# Altium footprint library MedEnginePCBLib.PcbLib: 54 footprints (part 2 of 4)
Each footprint in its own frame and in the unit in brackets; x right, y up, seen from the top. Pads: shape width x height; smd on the part's side, far side on the other; paste and mask are expansions set on the pad; w line width, h text height; cw(c..) or ccw(c..) is an arc to the next point about the centre after c.
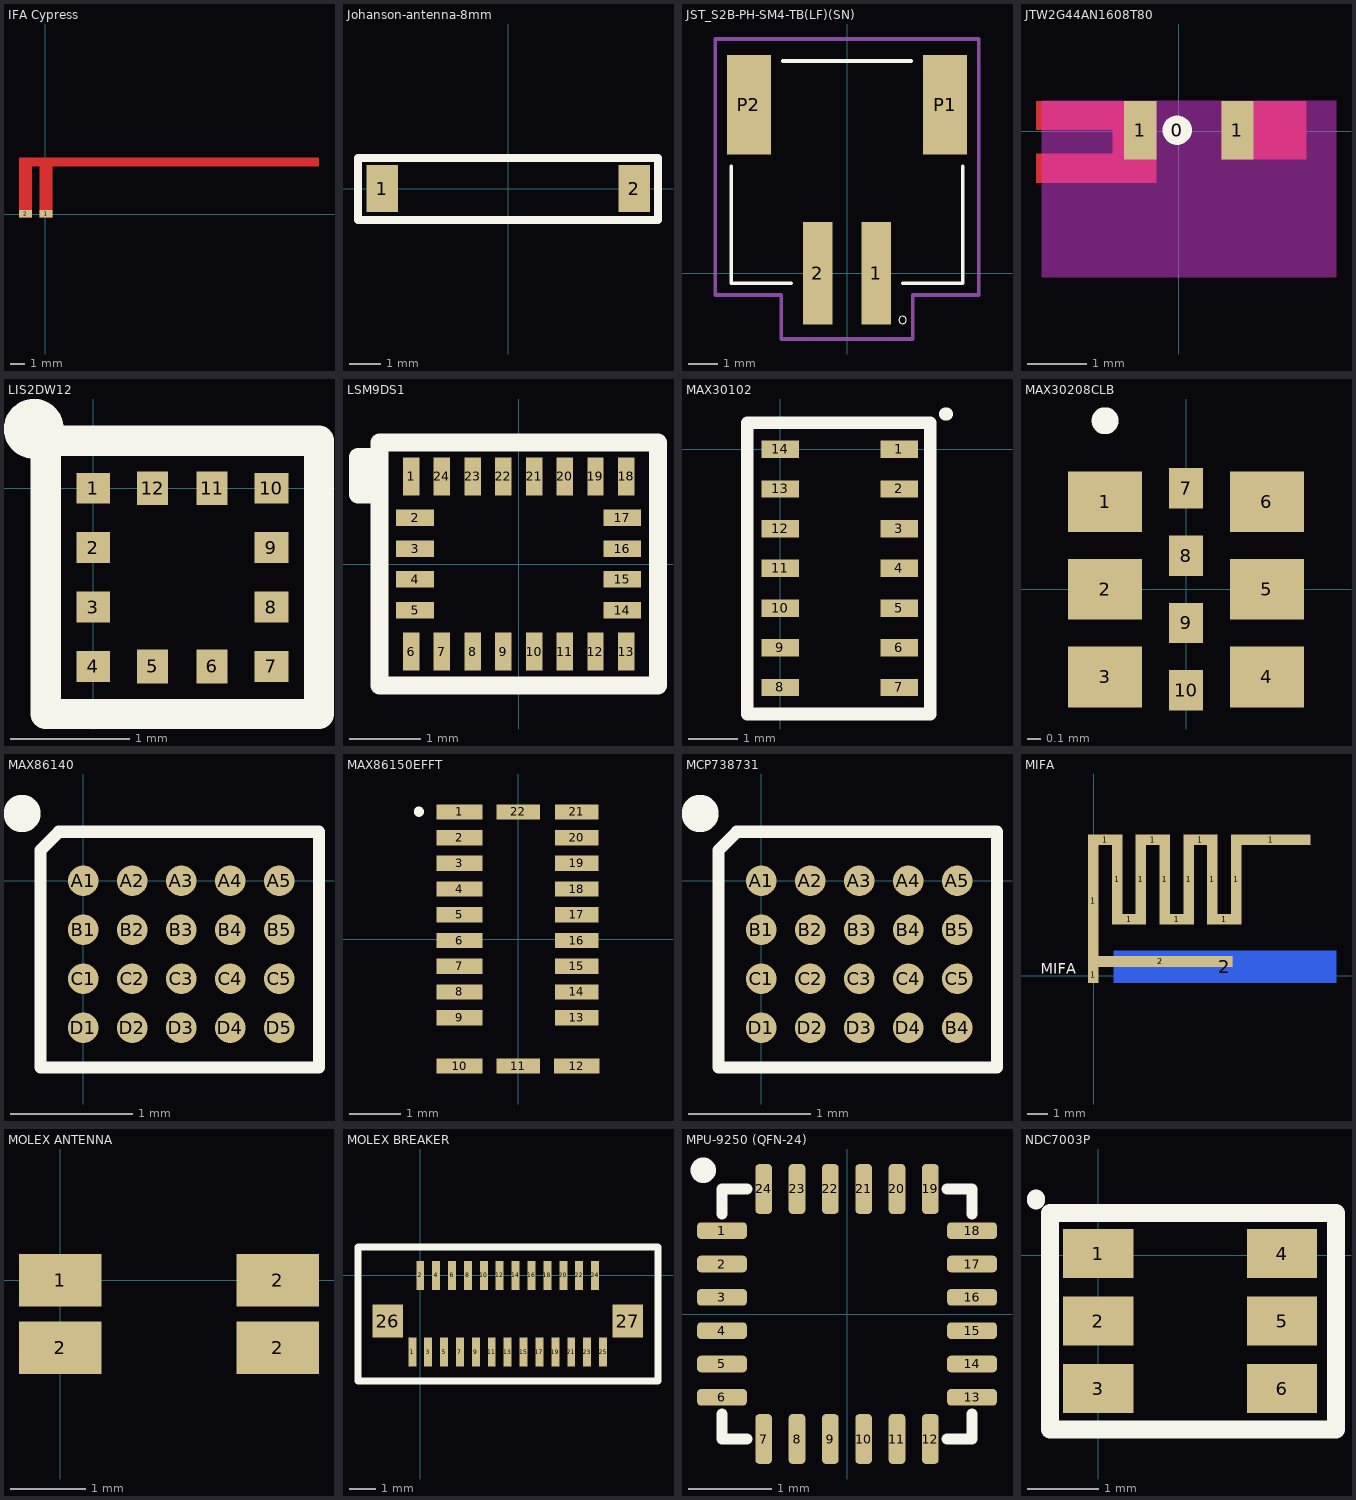
[diagram p1: the footprints below, top view; thin cyan lines are the x and y axes]

## IFA Cypress [mm]
pads (2):
  rect 0.889x0.5 smd paste-10 mask+0.102: 1(0.05,0.05) 2(-1.35,0.05)
Top Layer:
  rectangle: -1.8,3.25 18.599,3.86
  rectangle: -1.8,-0.213 -0.911,3.851
  rectangle: -0.4,-0.204 0.489,3.86

## Johanson-antenna-8mm [mm]
pads (2):
  rect 1x1.5 smd: 1(-4,0) 2(4,0)
Top Overlay:
  lines w0.254: -4.775,-1 4.75,-1 4.75,0.975 -4.775,0.975 -4.775,-1
3D body: height 0.51, standoff -1.6, extent -2.3,0.225 -2.3,0.225
3D body: height 1.4, standoff 0, extent -4.65,-0.9 4.625,0.85
3D body: height 0.25, standoff 0, extent -0.225,0.025 -0.225,0.025
3D body: height 0.25, standoff 0, extent -0.675,1.987 -0.675,1.987
3D body: height 0.25, standoff 0, extent -0.675,1.987 -0.675,1.987
3D body: height 0.25, standoff 0, extent -0.675,1.987 -0.675,1.987

## JST_S2B-PH-SM4-TB(LF)(SN) [mm]
pads (4):
  rect 1x3.5 smd: 1(1,0) 2(-1,0)
  rect 1.5x3.4 smd: P1(3.35,5.75) P2(-3.35,5.75)
Top Overlay:
  circle w0: c1.9,-1.6 r0.127
  lines w0.127: -3.95,3.65 -3.95,-0.35 -1.9,-0.35 ; -2.2,7.25 2.2,7.25 ; 1.9,-0.35 3.95,-0.35 3.95,3.65
Mechanical 1:
  lines w0.127: -4.5,-0.75 -2.25,-0.75 -2.25,-2.25 2.25,-2.25 2.25,-0.75 4.5,-0.75 4.5,8 -4.5,8 -4.5,-0.75
3D body "S2B-PH-SM4-TB.STEP": height 5.5, standoff -0.1, extent -3.937,-1.506 3.963,7.094

## JTW2G44AN1608T80 [mm] "creatway"
pads (3):
  round 0.5 on Top Overlay: 0(-0.023,0.02)
  rect 0.55x1 smd: 1(-0.648,0.02) 1(1.002,0.02)
Top Layer:
  rectangle: -2.423,-0.88 -0.373,-0.38
  rectangle: -2.423,0.02 -0.373,0.52
  rectangle: -1.123,-0.48 -0.373,0.52
  rectangle: 0.727,-0.48 2.177,0.52
Keep-Out Layer:
  pour cut-out: -2.323,0.52 -2.323,-2.48 2.677,-2.48 2.677,0.52

## LIS2DW12 [mm] "ACCELEROMETER"
pads (12):
  rect 0.285x0.26 smd mask+0.05: 1(0,0) 2(0,-0.5) 3(0,-1) 4(0,-1.5) 7(1.5,-1.5) 8(1.5,-1) 9(1.5,-0.5) 10(1.5,0)
  rect 0.26x0.285 smd mask+0.05: 5(0.5,-1.5) 6(1,-1.5) 11(1,0) 12(0.5,0)
Top Overlay:
  circle w0.254: c-0.5,0.5 r0.125
  lines w0.254: -0.4,-1.9 -0.4,0.4 1.9,0.4 1.9,-1.9 -0.4,-1.9
3D body: height 0.7, standoff 0, extent -0.25,-1.75 1.75,0.25

## LSM9DS1 [mm] "LGA 24 Pin"
height 1
pads (24):
  rect 0.23x0.53 smd mask+0.05: 1(-1.505,1.225) 6(-1.505,-1.225) 7(-1.075,-1.225) 8(-0.645,-1.225) 9(-0.215,-1.225) 10(0.215,-1.225) 11(0.645,-1.225) 12(1.075,-1.225) 13(1.505,-1.225) 18(1.505,1.225) 19(1.075,1.225) 20(0.645,1.225) 21(0.215,1.225) 22(-0.215,1.225) 23(-0.645,1.225) 24(-1.075,1.225)
  rect 0.53x0.23 smd mask+0.05: 2(-1.45,0.645) 3(-1.45,0.215) 4(-1.45,-0.215) 5(-1.45,-0.645) 14(1.45,-0.645) 15(1.45,-0.215) 16(1.45,0.215) 17(1.45,0.645)
Top Overlay:
  lines w0.254: -2.25,1.2 -2.25,1.325 ; -2.25,0.975 -2.25,1.5 -2.075,1.5 -2.075,0.975 -2.25,0.975 ; -1.95,-1.7 1.95,-1.7 1.95,1.7 -1.95,1.7 -1.95,-1.7
3D body: height 0.25, standoff 0, extent -2.7,1.55 -2.7,1.55
3D body "LGA-24 v1.step": height 0.87, standoff -0.13, extent -1.75,-1.499 1.75,1.501

## MAX30102 [mm] "MAX30102"
pads (14):
  rect 0.75x0.35 smd mask+0.05: 1(2.4,0) 2(2.4,-0.8) 3(2.4,-1.6) 4(2.4,-2.4) 5(2.4,-3.2) 6(2.4,-4) 7(2.4,-4.8) 8(0,-4.8) 9(0,-4) 10(0,-3.2) 11(0,-2.4) 12(0,-1.6) 13(0,-0.8) 14(0,0)
Top Overlay:
  lines w0.254: 3.327,0.711 3.353,0.711 ; -0.66,-5.334 -0.66,0.533 3.023,0.533 3.023,-5.334 -0.66,-5.334
3D body: height 1.5, standoff 0, extent -0.533,-5.207 2.896,0.406

## MAX30208CLB [mm]
pads (10):
  rect 0.55x0.45 smd: 1(-0.6,0.65) 2(-0.6,0) 3(-0.6,-0.65) 4(0.6,-0.65) 5(0.6,0) 6(0.6,0.65)
  rect 0.25x0.3 smd: 7(0,0.75) 8(0,0.25) 9(0,-0.25) 10(0,-0.75)
Top Overlay:
  lines w0.1: -0.6,1.2 cw(c-0.6,1.25) -0.6,1.3 cw(c-0.6,1.25) -0.6,1.2
3D body "MAX30208CLB+.stp": height 0.95, standoff 0, extent -1,-1 1,1

## MAX86140 [mm]
pads (20):
  round 0.25 smd mask+0: A1(0,0) A2(0.4,0) A3(0.8,0) A4(1.2,0) A5(1.6,0) B1(0,-0.4) B2(0.4,-0.4) B3(0.8,-0.4) B4(1.2,-0.4) B5(1.6,-0.4) C1(0,-0.8) C2(0.4,-0.8) C3(0.8,-0.8) C4(1.2,-0.8) C5(1.6,-0.8) D1(0,-1.2) D2(0.4,-1.2) D3(0.8,-1.2) D4(1.2,-1.2) D5(1.6,-1.2)
Top Overlay:
  circle w0.254: c-0.5,0.55 r0.025
  lines w0.1: -0.35,-1.525 -0.35,0.25 -0.25,0.35 -0.2,0.4 1.925,0.4 1.925,-1.525 -0.35,-1.525
3D body: height 0.51, standoff 0, extent -0.375,-1.525 1.925,0.425

## MAX86150EFFT [mm]
pads (22):
  rect 0.9x0.3 smd: 1(-1.15,2.495) 2(-1.15,1.99) 3(-1.15,1.485) 4(-1.15,0.98) 5(-1.15,0.475) 6(-1.15,-0.03) 7(-1.15,-0.535) 8(-1.15,-1.04) 9(-1.15,-1.545) 10(-1.15,-2.495) 12(1.15,-2.495)
  rect 0.85x0.3 smd: 11(0,-2.495) 13(1.15,-1.545) 14(1.15,-1.04) 15(1.15,-0.535) 16(1.15,-0.03) 17(1.15,0.475) 18(1.15,0.98) 19(1.15,1.485) 20(1.15,1.99) 21(1.15,2.495) 22(0,2.495)
Top Overlay:
  lines w0.1: -2,2.5 cw(c-1.95,2.5) -1.9,2.5 cw(c-1.95,2.5) -2,2.5
3D body "MAX86150EFF+T.stp": height 1.5, standoff 0, extent -1.65,-2.8 1.65,2.8

## MCP738731 [mm]
pads (20):
  round 0.25 smd mask+0: A1(0,0) A2(0.4,0) A3(0.8,0) A4(1.2,0) A5(1.6,0) B1(0,-0.4) B2(0.4,-0.4) B3(0.8,-0.4) B4(1.2,-0.4) B4(1.6,-1.2) B5(1.6,-0.4) C1(0,-0.8) C2(0.4,-0.8) C3(0.8,-0.8) C4(1.2,-0.8) C5(1.6,-0.8) D1(0,-1.2) D2(0.4,-1.2) D3(0.8,-1.2) D4(1.2,-1.2)
Top Overlay:
  circle w0.254: c-0.5,0.55 r0.025
  lines w0.1: -0.35,-1.525 -0.35,0.25 -0.25,0.35 -0.2,0.4 1.925,0.4 1.925,-1.525 -0.35,-1.525

## MIFA [mil]
pads (17):
  rect 20x31.5 smd paste-39.37: 1(-0.5,2)
  rect 20x216.54 smd paste-39.37: 1(-0.5,142)
  rect 65x20 smd paste-39.37: 1(22,257) 1(67,107) 1(112,257) 1(157,107) 1(202,257) 1(247,107)
  rect 20x137.8 smd paste-39.37: 1(44.5,182) 1(89.5,182) 1(134.5,182) 1(179.5,182) 1(224.5,182) 1(269.5,182)
  rect 150x20 smd paste-39.37: 1(334.5,257)
  rect 273x20 smd paste-39.37: 2(126,27)
  rect 420x59.94 smd far side paste+0 mask+0: 2(248,17)
Top Layer:
  region: -22,-4
Top Overlay:
  text "MIFA" at -100,4 h19.68

## MOLEX ANTENNA [mm] "CHIP ANTENNA"
pads (4):
  rect 1.1x0.7 smd mask+0.05: 1(0,0) 2(0,-0.9) 2(2.9,-0.9) 2(2.9,0)
3D body "1461750001.stp": height 4, standoff 0, extent -1.21,-1.95 3.86,1.12

## MOLEX BREAKER [mm]
pads (27):
  rect 0.3x1.1 smd mask+0.05: 1(-0.3,-2.9) 2(0,0) 3(0.3,-2.9) 4(0.6,0) 5(0.9,-2.9) 6(1.2,0) 7(1.5,-2.9) 8(1.8,0) 9(2.1,-2.9) 10(2.4,0) 11(2.7,-2.9) 12(3,0) 13(3.3,-2.9) 14(3.6,0) 15(3.9,-2.9) 16(4.2,0) 17(4.5,-2.9) 18(4.8,0) 19(5.1,-2.9) 20(5.4,0) 21(5.7,-2.9) 22(6,0) 23(6.3,-2.9) 24(6.6,0) 25(6.9,-2.9)
  rect 1.15x1.25 smd mask+0.05: 26(-1.225,-1.725) 27(7.825,-1.725)
Top Overlay:
  lines w0.254: -2.35,-3.99 -2.35,1.07 8.975,1.07 8.975,-3.99 -2.35,-3.99

## MPU-9250 (QFN-24) [mm] "MPU 9250 QFN 24"
height 1
pads (24):
  rrect50% 0.6x0.2 smd paste+0 mask+0.05: 1(-1.5,1) 2(-1.5,0.6) 3(-1.5,0.2) 4(-1.5,-0.2) 5(-1.5,-0.6) 6(-1.5,-1) 13(1.5,-1) 14(1.5,-0.6) 15(1.5,-0.2) 16(1.5,0.2) 17(1.5,0.6) 18(1.5,1)
  rrect50% 0.2x0.6 smd paste+0 mask+0.05: 7(-1,-1.5) 8(-0.6,-1.5) 9(-0.2,-1.5) 10(0.2,-1.5) 11(0.6,-1.5) 12(1,-1.5) 19(1,1.5) 20(0.6,1.5) 21(0.2,1.5) 22(-0.2,1.5) 23(-0.6,1.5) 24(-1,1.5)
Top Overlay:
  circle w0.254: c-1.725,1.725 r0.025
  lines w0.127: -1.5,-1.2 -1.5,-1.5 -1.2,-1.5 ; -1.5,1.2 -1.5,1.5 -1.2,1.5 ; 1.2,-1.5 1.5,-1.5 1.5,-1.2 ; 1.2,1.5 1.5,1.5 1.5,1.2
3D body: height 1, standoff 0, extent -1.5,-1.5 1.5,1.5

## NDC7003P [mm] "DUAL MOSFETS"
pads (6):
  rect 0.99x0.69 smd mask+0.05: 1(0,0.025) 2(0,-0.925) 3(0,-1.875) 4(2.59,0.025) 5(2.59,-0.925) 6(2.59,-1.875)
Top Overlay:
  lines w0.254: -0.875,0.775 -0.875,0.8 ; -0.675,-2.45 -0.675,0.6 3.35,0.6 3.35,-2.45 -0.675,-2.45
3D body: height 1, standoff 0, extent -0.55,-2.325 3.225,0.5